# Altium footprint library Connector_PinHeader_1.00mm.PcbLib: 278 footprints (part 9 of 18)
Each footprint in its own frame and in the unit in brackets; x right, y up, seen from the top. Pads: shape width x height; smd on the part's side, far side on the other; paste and mask are expansions set on the pad; w line width, h text height; cw(c..) or ccw(c..) is an arc to the next point about the centre after c.
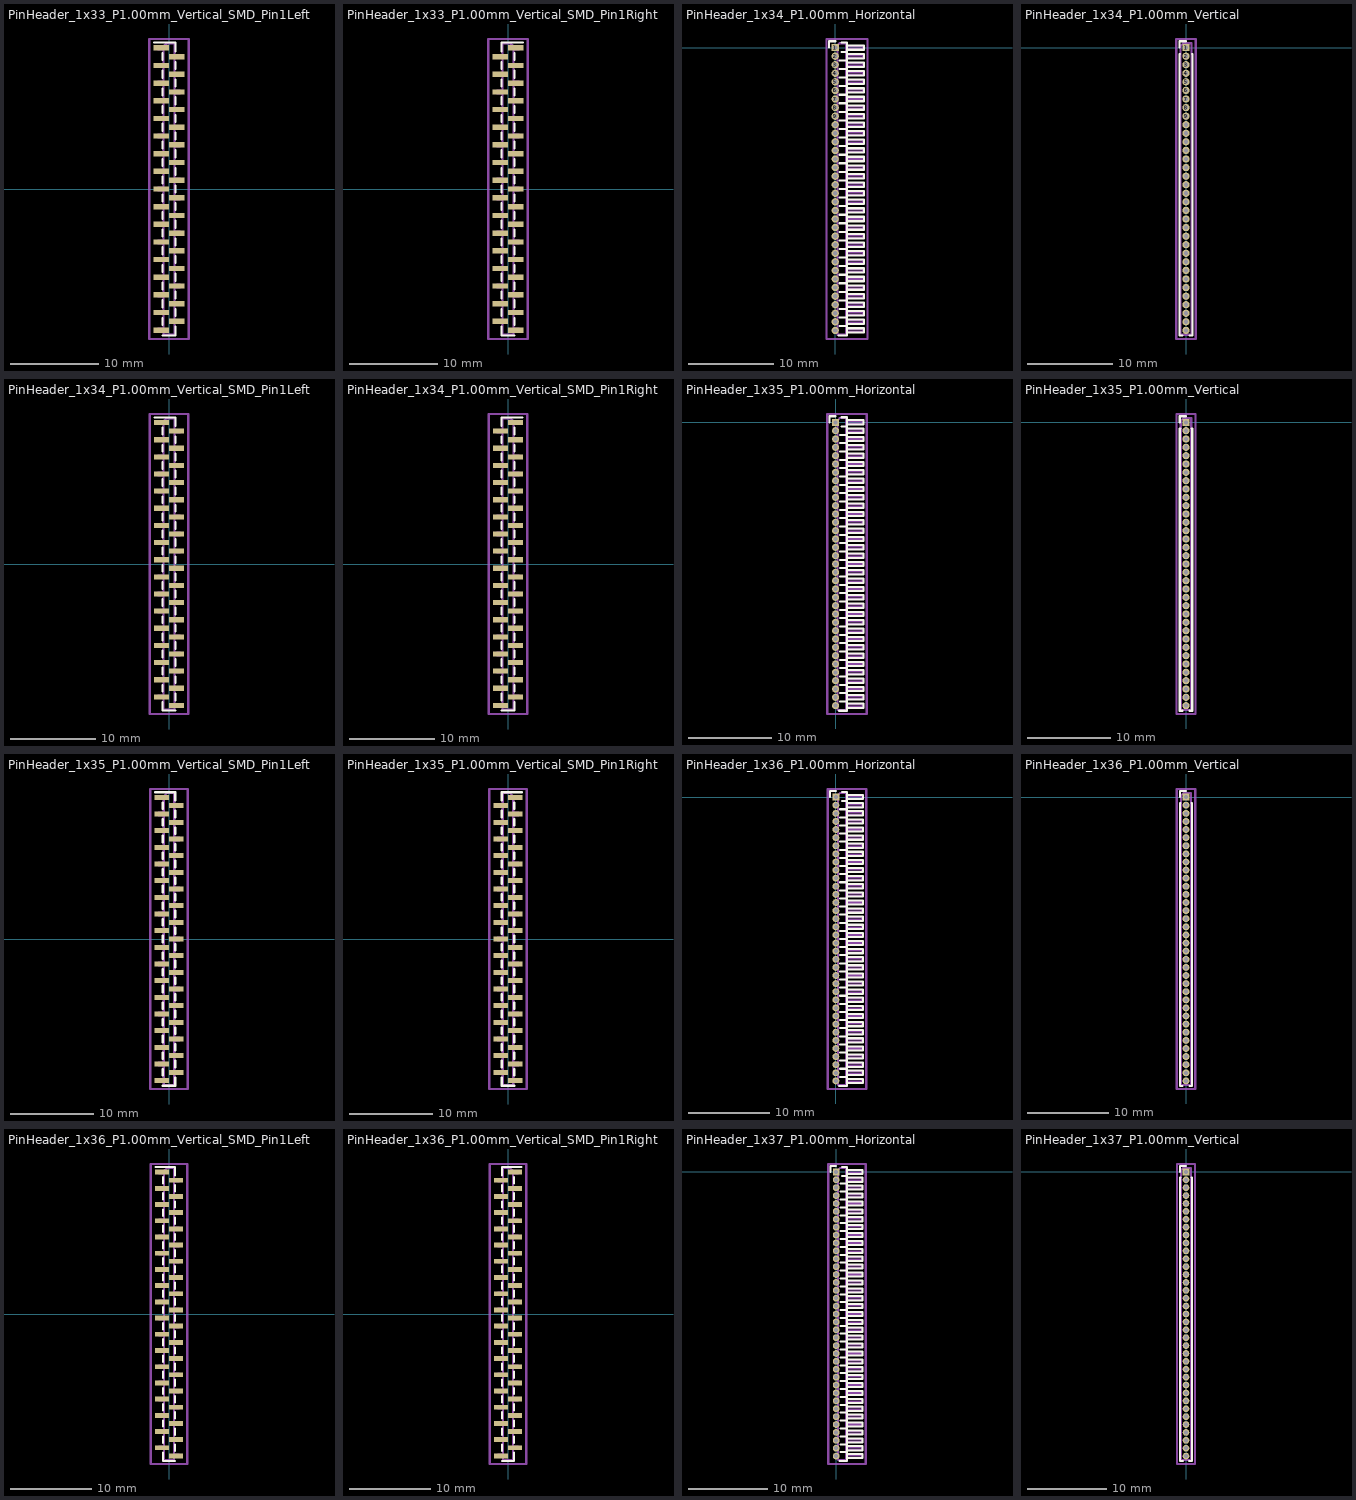
[diagram p8: the footprints below, top view; thin cyan lines are the x and y axes]

## PinHeader_1x33_P1.00mm_Vertical_SMD_Pin1Left [mm]
pads (33):
  rect 1.75x0.6 smd: 1(-0.875,16) 2(0.875,15) 3(-0.875,14) 4(0.875,13) 5(-0.875,12) 6(0.875,11) 7(-0.875,10) 8(0.875,9) 9(-0.875,8) 10(0.875,7) 11(-0.875,6) 12(0.875,5) 13(-0.875,4) 14(0.875,3) 15(-0.875,2) 16(0.875,1) 17(-0.875,0) 18(0.875,-1) 19(-0.875,-2) 20(0.875,-3) 21(-0.875,-4) 22(0.875,-5) 23(-0.875,-6) 24(0.875,-7) 25(-0.875,-8) 26(0.875,-9) 27(-0.875,-10) 28(0.875,-11) 29(-0.875,-12) 30(0.875,-13) 31(-0.875,-14) 32(0.875,-15) 33(-0.875,-16)
F.SilkS:
  lines w0.254: -1.69,16.61 -0.745,16.61 0.745,16.61 0.745,15.61 ; -0.745,-16.61 0.745,-16.61 0.745,-15.61 ; -0.745,-15.39 -0.745,-14.61 ; -0.745,-13.39 -0.745,-12.61 ; -0.745,-11.39 -0.745,-10.61 ; -0.745,-9.39 -0.745,-8.61 ; -0.745,-7.39 -0.745,-6.61 ; -0.745,-5.39 -0.745,-4.61 ; -0.745,-3.39 -0.745,-2.61 ; -0.745,-1.39 -0.745,-0.61 ; -0.745,0.61 -0.745,1.39 ; -0.745,2.61 -0.745,3.39 ; -0.745,4.61 -0.745,5.39 ; -0.745,6.61 -0.745,7.39 ; -0.745,8.61 -0.745,9.39 ; -0.745,10.61 -0.745,11.39 ; -0.745,12.61 -0.745,13.39 ; -0.745,14.61 -0.745,15.39 ; 0.745,-14.39 0.745,-13.61 ; 0.745,-12.39 0.745,-11.61 ; 0.745,-10.39 0.745,-9.61 ; 0.745,-8.39 0.745,-7.61 ; 0.745,-6.39 0.745,-5.61 ; 0.745,-4.39 0.745,-3.61 ; 0.745,-2.39 0.745,-1.61 ; 0.745,-0.39 0.745,0.39 ; 0.745,1.61 0.745,2.39 ; 0.745,3.61 0.745,4.39 ; 0.745,5.61 0.745,6.39 ; 0.745,7.61 0.745,8.39 ; 0.745,9.61 0.745,10.39 ; 0.745,11.61 0.745,12.39 ; 0.745,13.61 0.745,14.39
Top Assembly:
  lines w0.254: -0.635,-16.15 -1.25,-16.15 -1.25,-15.85 -0.635,-15.85 ; -0.635,-14.15 -1.25,-14.15 -1.25,-13.85 -0.635,-13.85 ; -0.635,-12.15 -1.25,-12.15 -1.25,-11.85 -0.635,-11.85 ; -0.635,-10.15 -1.25,-10.15 -1.25,-9.85 -0.635,-9.85 ; -0.635,-8.15 -1.25,-8.15 -1.25,-7.85 -0.635,-7.85 ; -0.635,-6.15 -1.25,-6.15 -1.25,-5.85 -0.635,-5.85 ; -0.635,-4.15 -1.25,-4.15 -1.25,-3.85 -0.635,-3.85 ; -0.635,-2.15 -1.25,-2.15 -1.25,-1.85 -0.635,-1.85 ; -0.635,-0.15 -1.25,-0.15 -1.25,0.15 -0.635,0.15 ; -0.635,1.85 -1.25,1.85 -1.25,2.15 -0.635,2.15 ; -0.635,3.85 -1.25,3.85 -1.25,4.15 -0.635,4.15 ; -0.635,5.85 -1.25,5.85 -1.25,6.15 -0.635,6.15 ; -0.635,7.85 -1.25,7.85 -1.25,8.15 -0.635,8.15 ; -0.635,9.85 -1.25,9.85 -1.25,10.15 -0.635,10.15 ; -0.635,11.85 -1.25,11.85 -1.25,12.15 -0.635,12.15 ; -0.635,13.85 -1.25,13.85 -1.25,14.15 -0.635,14.15 ; -0.635,15.85 -1.25,15.85 -1.25,16.15 -0.635,16.15 ; 0.635,-15.15 1.25,-15.15 1.25,-14.85 0.635,-14.85 ; 0.635,-13.15 1.25,-13.15 1.25,-12.85 0.635,-12.85 ; 0.635,-11.15 1.25,-11.15 1.25,-10.85 0.635,-10.85 ; 0.635,-9.15 1.25,-9.15 1.25,-8.85 0.635,-8.85 ; 0.635,-7.15 1.25,-7.15 1.25,-6.85 0.635,-6.85 ; 0.635,-5.15 1.25,-5.15 1.25,-4.85 0.635,-4.85 ; 0.635,-3.15 1.25,-3.15 1.25,-2.85 0.635,-2.85 ; 0.635,-1.15 1.25,-1.15 1.25,-0.85 0.635,-0.85 ; 0.635,0.85 1.25,0.85 1.25,1.15 0.635,1.15 ; 0.635,2.85 1.25,2.85 1.25,3.15 0.635,3.15 ; 0.635,4.85 1.25,4.85 1.25,5.15 0.635,5.15 ; 0.635,6.85 1.25,6.85 1.25,7.15 0.635,7.15 ; 0.635,8.85 1.25,8.85 1.25,9.15 0.635,9.15 ; 0.635,10.85 1.25,10.85 1.25,11.15 0.635,11.15 ; 0.635,12.85 1.25,12.85 1.25,13.15 0.635,13.15 ; 0.635,14.85 1.25,14.85 1.25,15.15 0.635,15.15 ; -0.635,16.15 -0.635,-16.5 0.635,-16.5 0.635,16.5 -0.285,16.5 -0.635,16.15
  text "'.Designator'" at 0.84,-4.047 h1
Top Courtyard:
  lines w0.254: -2.25,-17 2.25,-17 2.25,17 -2.25,17 -2.25,-17
Top Designator:
  text ".Designator" at -7.618,-0.508 h1.52

## PinHeader_1x33_P1.00mm_Vertical_SMD_Pin1Right [mm]
pads (33):
  rect 1.75x0.6 smd: 1(0.875,16) 2(-0.875,15) 3(0.875,14) 4(-0.875,13) 5(0.875,12) 6(-0.875,11) 7(0.875,10) 8(-0.875,9) 9(0.875,8) 10(-0.875,7) 11(0.875,6) 12(-0.875,5) 13(0.875,4) 14(-0.875,3) 15(0.875,2) 16(-0.875,1) 17(0.875,0) 18(-0.875,-1) 19(0.875,-2) 20(-0.875,-3) 21(0.875,-4) 22(-0.875,-5) 23(0.875,-6) 24(-0.875,-7) 25(0.875,-8) 26(-0.875,-9) 27(0.875,-10) 28(-0.875,-11) 29(0.875,-12) 30(-0.875,-13) 31(0.875,-14) 32(-0.875,-15) 33(0.875,-16)
F.SilkS:
  lines w0.254: -0.745,-15.61 -0.745,-16.61 0.745,-16.61 ; -0.745,-14.39 -0.745,-13.61 ; -0.745,-12.39 -0.745,-11.61 ; -0.745,-10.39 -0.745,-9.61 ; -0.745,-8.39 -0.745,-7.61 ; -0.745,-6.39 -0.745,-5.61 ; -0.745,-4.39 -0.745,-3.61 ; -0.745,-2.39 -0.745,-1.61 ; -0.745,-0.39 -0.745,0.39 ; -0.745,1.61 -0.745,2.39 ; -0.745,3.61 -0.745,4.39 ; -0.745,5.61 -0.745,6.39 ; -0.745,7.61 -0.745,8.39 ; -0.745,9.61 -0.745,10.39 ; -0.745,11.61 -0.745,12.39 ; -0.745,13.61 -0.745,14.39 ; -0.745,16.39 -0.745,15.61 -0.745,16.61 0.745,16.61 1.69,16.61 ; 0.745,-15.39 0.745,-14.61 ; 0.745,-13.39 0.745,-12.61 ; 0.745,-11.39 0.745,-10.61 ; 0.745,-9.39 0.745,-8.61 ; 0.745,-7.39 0.745,-6.61 ; 0.745,-5.39 0.745,-4.61 ; 0.745,-3.39 0.745,-2.61 ; 0.745,-1.39 0.745,-0.61 ; 0.745,0.61 0.745,1.39 ; 0.745,2.61 0.745,3.39 ; 0.745,4.61 0.745,5.39 ; 0.745,6.61 0.745,7.39 ; 0.745,8.61 0.745,9.39 ; 0.745,10.61 0.745,11.39 ; 0.745,12.61 0.745,13.39 ; 0.745,14.61 0.745,15.39
Top Assembly:
  lines w0.254: -0.635,-15.15 -1.25,-15.15 -1.25,-14.85 -0.635,-14.85 ; -0.635,-13.15 -1.25,-13.15 -1.25,-12.85 -0.635,-12.85 ; -0.635,-11.15 -1.25,-11.15 -1.25,-10.85 -0.635,-10.85 ; -0.635,-9.15 -1.25,-9.15 -1.25,-8.85 -0.635,-8.85 ; -0.635,-7.15 -1.25,-7.15 -1.25,-6.85 -0.635,-6.85 ; -0.635,-5.15 -1.25,-5.15 -1.25,-4.85 -0.635,-4.85 ; -0.635,-3.15 -1.25,-3.15 -1.25,-2.85 -0.635,-2.85 ; -0.635,-1.15 -1.25,-1.15 -1.25,-0.85 -0.635,-0.85 ; -0.635,0.85 -1.25,0.85 -1.25,1.15 -0.635,1.15 ; -0.635,2.85 -1.25,2.85 -1.25,3.15 -0.635,3.15 ; -0.635,4.85 -1.25,4.85 -1.25,5.15 -0.635,5.15 ; -0.635,6.85 -1.25,6.85 -1.25,7.15 -0.635,7.15 ; -0.635,8.85 -1.25,8.85 -1.25,9.15 -0.635,9.15 ; -0.635,10.85 -1.25,10.85 -1.25,11.15 -0.635,11.15 ; -0.635,12.85 -1.25,12.85 -1.25,13.15 -0.635,13.15 ; -0.635,14.85 -1.25,14.85 -1.25,15.15 -0.635,15.15 ; 0.635,-16.15 1.25,-16.15 1.25,-15.85 0.635,-15.85 ; 0.635,-14.15 1.25,-14.15 1.25,-13.85 0.635,-13.85 ; 0.635,-12.15 1.25,-12.15 1.25,-11.85 0.635,-11.85 ; 0.635,-10.15 1.25,-10.15 1.25,-9.85 0.635,-9.85 ; 0.635,-8.15 1.25,-8.15 1.25,-7.85 0.635,-7.85 ; 0.635,-6.15 1.25,-6.15 1.25,-5.85 0.635,-5.85 ; 0.635,-4.15 1.25,-4.15 1.25,-3.85 0.635,-3.85 ; 0.635,-2.15 1.25,-2.15 1.25,-1.85 0.635,-1.85 ; 0.635,-0.15 1.25,-0.15 1.25,0.15 0.635,0.15 ; 0.635,1.85 1.25,1.85 1.25,2.15 0.635,2.15 ; 0.635,3.85 1.25,3.85 1.25,4.15 0.635,4.15 ; 0.635,5.85 1.25,5.85 1.25,6.15 0.635,6.15 ; 0.635,7.85 1.25,7.85 1.25,8.15 0.635,8.15 ; 0.635,9.85 1.25,9.85 1.25,10.15 0.635,10.15 ; 0.635,11.85 1.25,11.85 1.25,12.15 0.635,12.15 ; 0.635,13.85 1.25,13.85 1.25,14.15 0.635,14.15 ; 0.635,15.85 1.25,15.85 1.25,16.15 0.635,16.15 ; 0.635,16.15 0.635,-16.5 -0.635,-16.5 -0.635,16.5 0.285,16.5 0.635,16.15
  text "'.Designator'" at 0.84,-4.047 h1
Top Courtyard:
  lines w0.254: -2.25,-17 2.25,-17 2.25,17 -2.25,17 -2.25,-17
Top Designator:
  text ".Designator" at -7.618,-0.508 h1.52

## PinHeader_1x34_P1.00mm_Horizontal [mm]
pads (34):
  rect 0.85x0.85 hole 0.5: 1(0,0)
  round 0.85 hole 0.5: 2(0,-1) 3(0,-2) 4(0,-3) 5(0,-4) 6(0,-5) 7(0,-6) 8(0,-7) 9(0,-8) 10(0,-9) 11(0,-10) 12(0,-11) 13(0,-12) 14(0,-13) 15(0,-14) 16(0,-15) 17(0,-16) 18(0,-17) 19(0,-18) 20(0,-19) 21(0,-20) 22(0,-21) 23(0,-22) 24(0,-23) 25(0,-24) 26(0,-25) 27(0,-26) 28(0,-27) 29(0,-28) 30(0,-29) 31(0,-30) 32(0,-31) 33(0,-32) 34(0,-33)
F.SilkS:
  lines w0.254: -0.735,0 -0.735,0.735 0,0.735 ; 0.41,-33.61 1.36,-33.61 1.36,0.61 0.735,0.61 ; 0.539,-32.5 1.36,-32.5 ; 0.539,-31.5 1.36,-31.5 ; 0.539,-30.5 1.36,-30.5 ; 0.539,-29.5 1.36,-29.5 ; 0.539,-28.5 1.36,-28.5 ; 0.539,-27.5 1.36,-27.5 ; 0.539,-26.5 1.36,-26.5 ; 0.539,-25.5 1.36,-25.5 ; 0.539,-24.5 1.36,-24.5 ; 0.539,-23.5 1.36,-23.5 ; 0.539,-22.5 1.36,-22.5 ; 0.539,-21.5 1.36,-21.5 ; 0.539,-20.5 1.36,-20.5 ; 0.539,-19.5 1.36,-19.5 ; 0.539,-18.5 1.36,-18.5 ; 0.539,-17.5 1.36,-17.5 ; 0.539,-16.5 1.36,-16.5 ; 0.539,-15.5 1.36,-15.5 ; 0.539,-14.5 1.36,-14.5 ; 0.539,-13.5 1.36,-13.5 ; 0.539,-12.5 1.36,-12.5 ; 0.539,-11.5 1.36,-11.5 ; 0.539,-10.5 1.36,-10.5 ; 0.539,-9.5 1.36,-9.5 ; 0.539,-8.5 1.36,-8.5 ; 0.539,-7.5 1.36,-7.5 ; 0.539,-6.5 1.36,-6.5 ; 0.539,-5.5 1.36,-5.5 ; 0.539,-4.5 1.36,-4.5 ; 0.539,-3.5 1.36,-3.5 ; 0.539,-2.5 1.36,-2.5 ; 0.539,-1.5 1.36,-1.5 ; 0.735,-0.5 1.36,-0.5 ; 1.36,-33.26 3.36,-33.26 3.36,-32.74 1.36,-32.74 ; 1.36,-32.26 3.36,-32.26 3.36,-31.74 1.36,-31.74 ; 1.36,-31.26 3.36,-31.26 3.36,-30.74 1.36,-30.74 ; 1.36,-30.26 3.36,-30.26 3.36,-29.74 1.36,-29.74 ; 1.36,-29.26 3.36,-29.26 3.36,-28.74 1.36,-28.74 ; 1.36,-28.26 3.36,-28.26 3.36,-27.74 1.36,-27.74 ; 1.36,-27.26 3.36,-27.26 3.36,-26.74 1.36,-26.74 ; 1.36,-26.26 3.36,-26.26 3.36,-25.74 1.36,-25.74 ; 1.36,-25.26 3.36,-25.26 3.36,-24.74 1.36,-24.74 ; 1.36,-24.26 3.36,-24.26 3.36,-23.74 1.36,-23.74 ; 1.36,-23.26 3.36,-23.26 3.36,-22.74 1.36,-22.74 ; 1.36,-22.26 3.36,-22.26 3.36,-21.74 1.36,-21.74 ; 1.36,-21.26 3.36,-21.26 3.36,-20.74 1.36,-20.74 ; 1.36,-20.26 3.36,-20.26 3.36,-19.74 1.36,-19.74 ; 1.36,-19.26 3.36,-19.26 3.36,-18.74 1.36,-18.74 ; 1.36,-18.26 3.36,-18.26 3.36,-17.74 1.36,-17.74 ; 1.36,-17.26 3.36,-17.26 3.36,-16.74 1.36,-16.74 ; 1.36,-16.26 3.36,-16.26 3.36,-15.74 1.36,-15.74 ; 1.36,-15.26 3.36,-15.26 3.36,-14.74 1.36,-14.74 ; 1.36,-14.26 3.36,-14.26 3.36,-13.74 1.36,-13.74 ; 1.36,-13.26 3.36,-13.26 3.36,-12.74 1.36,-12.74 ; 1.36,-12.26 3.36,-12.26 3.36,-11.74 1.36,-11.74 ; 1.36,-11.26 3.36,-11.26 3.36,-10.74 1.36,-10.74 ; 1.36,-10.26 3.36,-10.26 3.36,-9.74 1.36,-9.74 ; 1.36,-9.26 3.36,-9.26 3.36,-8.74 1.36,-8.74 ; 1.36,-8.26 3.36,-8.26 3.36,-7.74 1.36,-7.74 ; 1.36,-7.26 3.36,-7.26 3.36,-6.74 1.36,-6.74 ; 1.36,-6.26 3.36,-6.26 3.36,-5.74 1.36,-5.74 ; 1.36,-5.26 3.36,-5.26 3.36,-4.74 1.36,-4.74 ; 1.36,-4.26 3.36,-4.26 3.36,-3.74 1.36,-3.74 ; 1.36,-3.26 3.36,-3.26 3.36,-2.74 1.36,-2.74 ; 1.36,-2.26 3.36,-2.26 3.36,-1.74 1.36,-1.74 ; 1.36,-1.26 3.36,-1.26 3.36,-0.74 1.36,-0.74 ; 1.36,-0.26 3.36,-0.26 3.36,0.26 1.36,0.26 1.36,-0.26
Top Assembly:
  drawing of 209 lines, arcs and shapes, not listed
  text "'.Designator'" at 1.254,-18.928 h0.6
Top Courtyard:
  lines w0.254: -1,-34 3.75,-34 3.75,1 -1,1 -1,-34
Top Designator:
  text ".Designator" at -6.243,-17.008 h1.52

## PinHeader_1x34_P1.00mm_Vertical [mm]
pads (34):
  rect 0.85x0.85 hole 0.5: 1(0,0)
  round 0.85 hole 0.5: 2(0,-1) 3(0,-2) 4(0,-3) 5(0,-4) 6(0,-5) 7(0,-6) 8(0,-7) 9(0,-8) 10(0,-9) 11(0,-10) 12(0,-11) 13(0,-12) 14(0,-13) 15(0,-14) 16(0,-15) 17(0,-16) 18(0,-17) 19(0,-18) 20(0,-19) 21(0,-20) 22(0,-21) 23(0,-22) 24(0,-23) 25(0,-24) 26(0,-25) 27(0,-26) 28(0,-27) 29(0,-28) 30(0,-29) 31(0,-30) 32(0,-31) 33(0,-32) 34(0,-33)
F.SilkS:
  lines w0.254: -0.745,0 -0.745,0.735 0,0.735 ; -0.686,-0.735 -0.745,-0.735 -0.745,-33.61 -0.41,-33.61 ; 0.41,-33.61 0.745,-33.61 0.745,-0.735 0.686,-0.735
Top Assembly:
  lines w0.254: -0.635,-33.5 0.635,-33.5 0.635,0.5 -0.318,0.5 -0.635,0.182 -0.635,-33.5
  text "'.Designator'" at 0.639,-19.576 h0.76
Top Courtyard:
  lines w0.254: -1.14,-34 1.14,-34 1.14,1 -1.14,1 -1.14,-34
Top Designator:
  text ".Designator" at -7.618,-17.008 h1.52

## PinHeader_1x34_P1.00mm_Vertical_SMD_Pin1Left [mm]
pads (34):
  rect 1.75x0.6 smd: 1(-0.875,16.5) 2(0.875,15.5) 3(-0.875,14.5) 4(0.875,13.5) 5(-0.875,12.5) 6(0.875,11.5) 7(-0.875,10.5) 8(0.875,9.5) 9(-0.875,8.5) 10(0.875,7.5) 11(-0.875,6.5) 12(0.875,5.5) 13(-0.875,4.5) 14(0.875,3.5) 15(-0.875,2.5) 16(0.875,1.5) 17(-0.875,0.5) 18(0.875,-0.5) 19(-0.875,-1.5) 20(0.875,-2.5) 21(-0.875,-3.5) 22(0.875,-4.5) 23(-0.875,-5.5) 24(0.875,-6.5) 25(-0.875,-7.5) 26(0.875,-8.5) 27(-0.875,-9.5) 28(0.875,-10.5) 29(-0.875,-11.5) 30(0.875,-12.5) 31(-0.875,-13.5) 32(0.875,-14.5) 33(-0.875,-15.5) 34(0.875,-16.5)
F.SilkS:
  lines w0.254: -1.69,17.11 -0.745,17.11 0.745,17.11 0.745,16.11 ; -0.745,-16.11 -0.745,-17.11 0.745,-17.11 ; -0.745,-14.89 -0.745,-14.11 ; -0.745,-12.89 -0.745,-12.11 ; -0.745,-10.89 -0.745,-10.11 ; -0.745,-8.89 -0.745,-8.11 ; -0.745,-6.89 -0.745,-6.11 ; -0.745,-4.89 -0.745,-4.11 ; -0.745,-2.89 -0.745,-2.11 ; -0.745,-0.89 -0.745,-0.11 ; -0.745,1.11 -0.745,1.89 ; -0.745,3.11 -0.745,3.89 ; -0.745,5.11 -0.745,5.89 ; -0.745,7.11 -0.745,7.89 ; -0.745,9.11 -0.745,9.89 ; -0.745,11.11 -0.745,11.89 ; -0.745,13.11 -0.745,13.89 ; -0.745,15.11 -0.745,15.89 ; 0.745,-15.89 0.745,-15.11 ; 0.745,-13.89 0.745,-13.11 ; 0.745,-11.89 0.745,-11.11 ; 0.745,-9.89 0.745,-9.11 ; 0.745,-7.89 0.745,-7.11 ; 0.745,-5.89 0.745,-5.11 ; 0.745,-3.89 0.745,-3.11 ; 0.745,-1.89 0.745,-1.11 ; 0.745,0.11 0.745,0.89 ; 0.745,2.11 0.745,2.89 ; 0.745,4.11 0.745,4.89 ; 0.745,6.11 0.745,6.89 ; 0.745,8.11 0.745,8.89 ; 0.745,10.11 0.745,10.89 ; 0.745,12.11 0.745,12.89 ; 0.745,14.11 0.745,14.89
Top Assembly:
  lines w0.254: -0.635,-15.65 -1.25,-15.65 -1.25,-15.35 -0.635,-15.35 ; -0.635,-13.65 -1.25,-13.65 -1.25,-13.35 -0.635,-13.35 ; -0.635,-11.65 -1.25,-11.65 -1.25,-11.35 -0.635,-11.35 ; -0.635,-9.65 -1.25,-9.65 -1.25,-9.35 -0.635,-9.35 ; -0.635,-7.65 -1.25,-7.65 -1.25,-7.35 -0.635,-7.35 ; -0.635,-5.65 -1.25,-5.65 -1.25,-5.35 -0.635,-5.35 ; -0.635,-3.65 -1.25,-3.65 -1.25,-3.35 -0.635,-3.35 ; -0.635,-1.65 -1.25,-1.65 -1.25,-1.35 -0.635,-1.35 ; -0.635,0.35 -1.25,0.35 -1.25,0.65 -0.635,0.65 ; -0.635,2.35 -1.25,2.35 -1.25,2.65 -0.635,2.65 ; -0.635,4.35 -1.25,4.35 -1.25,4.65 -0.635,4.65 ; -0.635,6.35 -1.25,6.35 -1.25,6.65 -0.635,6.65 ; -0.635,8.35 -1.25,8.35 -1.25,8.65 -0.635,8.65 ; -0.635,10.35 -1.25,10.35 -1.25,10.65 -0.635,10.65 ; -0.635,12.35 -1.25,12.35 -1.25,12.65 -0.635,12.65 ; -0.635,14.35 -1.25,14.35 -1.25,14.65 -0.635,14.65 ; -0.635,16.35 -1.25,16.35 -1.25,16.65 -0.635,16.65 ; 0.635,-16.65 1.25,-16.65 1.25,-16.35 0.635,-16.35 ; 0.635,-14.65 1.25,-14.65 1.25,-14.35 0.635,-14.35 ; 0.635,-12.65 1.25,-12.65 1.25,-12.35 0.635,-12.35 ; 0.635,-10.65 1.25,-10.65 1.25,-10.35 0.635,-10.35 ; 0.635,-8.65 1.25,-8.65 1.25,-8.35 0.635,-8.35 ; 0.635,-6.65 1.25,-6.65 1.25,-6.35 0.635,-6.35 ; 0.635,-4.65 1.25,-4.65 1.25,-4.35 0.635,-4.35 ; 0.635,-2.65 1.25,-2.65 1.25,-2.35 0.635,-2.35 ; 0.635,-0.65 1.25,-0.65 1.25,-0.35 0.635,-0.35 ; 0.635,1.35 1.25,1.35 1.25,1.65 0.635,1.65 ; 0.635,3.35 1.25,3.35 1.25,3.65 0.635,3.65 ; 0.635,5.35 1.25,5.35 1.25,5.65 0.635,5.65 ; 0.635,7.35 1.25,7.35 1.25,7.65 0.635,7.65 ; 0.635,9.35 1.25,9.35 1.25,9.65 0.635,9.65 ; 0.635,11.35 1.25,11.35 1.25,11.65 0.635,11.65 ; 0.635,13.35 1.25,13.35 1.25,13.65 0.635,13.65 ; 0.635,15.35 1.25,15.35 1.25,15.65 0.635,15.65 ; -0.635,16.65 -0.635,-17 0.635,-17 0.635,17 -0.285,17 -0.635,16.65
  text "'.Designator'" at 0.84,-4.047 h1
Top Courtyard:
  lines w0.254: -2.25,-17.5 2.25,-17.5 2.25,17.5 -2.25,17.5 -2.25,-17.5
Top Designator:
  text ".Designator" at -7.618,-0.508 h1.52

## PinHeader_1x34_P1.00mm_Vertical_SMD_Pin1Right [mm]
pads (34):
  rect 1.75x0.6 smd: 1(0.875,16.5) 2(-0.875,15.5) 3(0.875,14.5) 4(-0.875,13.5) 5(0.875,12.5) 6(-0.875,11.5) 7(0.875,10.5) 8(-0.875,9.5) 9(0.875,8.5) 10(-0.875,7.5) 11(0.875,6.5) 12(-0.875,5.5) 13(0.875,4.5) 14(-0.875,3.5) 15(0.875,2.5) 16(-0.875,1.5) 17(0.875,0.5) 18(-0.875,-0.5) 19(0.875,-1.5) 20(-0.875,-2.5) 21(0.875,-3.5) 22(-0.875,-4.5) 23(0.875,-5.5) 24(-0.875,-6.5) 25(0.875,-7.5) 26(-0.875,-8.5) 27(0.875,-9.5) 28(-0.875,-10.5) 29(0.875,-11.5) 30(-0.875,-12.5) 31(0.875,-13.5) 32(-0.875,-14.5) 33(0.875,-15.5) 34(-0.875,-16.5)
F.SilkS:
  lines w0.254: -0.745,-17.11 0.745,-17.11 0.745,-16.11 ; -0.745,-15.89 -0.745,-15.11 ; -0.745,-13.89 -0.745,-13.11 ; -0.745,-11.89 -0.745,-11.11 ; -0.745,-9.89 -0.745,-9.11 ; -0.745,-7.89 -0.745,-7.11 ; -0.745,-5.89 -0.745,-5.11 ; -0.745,-3.89 -0.745,-3.11 ; -0.745,-1.89 -0.745,-1.11 ; -0.745,0.11 -0.745,0.89 ; -0.745,2.11 -0.745,2.89 ; -0.745,4.11 -0.745,4.89 ; -0.745,6.11 -0.745,6.89 ; -0.745,8.11 -0.745,8.89 ; -0.745,10.11 -0.745,10.89 ; -0.745,12.11 -0.745,12.89 ; -0.745,14.11 -0.745,14.89 ; -0.745,16.89 -0.745,16.11 -0.745,17.11 0.745,17.11 1.69,17.11 ; 0.745,-14.89 0.745,-14.11 ; 0.745,-12.89 0.745,-12.11 ; 0.745,-10.89 0.745,-10.11 ; 0.745,-8.89 0.745,-8.11 ; 0.745,-6.89 0.745,-6.11 ; 0.745,-4.89 0.745,-4.11 ; 0.745,-2.89 0.745,-2.11 ; 0.745,-0.89 0.745,-0.11 ; 0.745,1.11 0.745,1.89 ; 0.745,3.11 0.745,3.89 ; 0.745,5.11 0.745,5.89 ; 0.745,7.11 0.745,7.89 ; 0.745,9.11 0.745,9.89 ; 0.745,11.11 0.745,11.89 ; 0.745,13.11 0.745,13.89 ; 0.745,15.11 0.745,15.89
Top Assembly:
  lines w0.254: -0.635,-16.65 -1.25,-16.65 -1.25,-16.35 -0.635,-16.35 ; -0.635,-14.65 -1.25,-14.65 -1.25,-14.35 -0.635,-14.35 ; -0.635,-12.65 -1.25,-12.65 -1.25,-12.35 -0.635,-12.35 ; -0.635,-10.65 -1.25,-10.65 -1.25,-10.35 -0.635,-10.35 ; -0.635,-8.65 -1.25,-8.65 -1.25,-8.35 -0.635,-8.35 ; -0.635,-6.65 -1.25,-6.65 -1.25,-6.35 -0.635,-6.35 ; -0.635,-4.65 -1.25,-4.65 -1.25,-4.35 -0.635,-4.35 ; -0.635,-2.65 -1.25,-2.65 -1.25,-2.35 -0.635,-2.35 ; -0.635,-0.65 -1.25,-0.65 -1.25,-0.35 -0.635,-0.35 ; -0.635,1.35 -1.25,1.35 -1.25,1.65 -0.635,1.65 ; -0.635,3.35 -1.25,3.35 -1.25,3.65 -0.635,3.65 ; -0.635,5.35 -1.25,5.35 -1.25,5.65 -0.635,5.65 ; -0.635,7.35 -1.25,7.35 -1.25,7.65 -0.635,7.65 ; -0.635,9.35 -1.25,9.35 -1.25,9.65 -0.635,9.65 ; -0.635,11.35 -1.25,11.35 -1.25,11.65 -0.635,11.65 ; -0.635,13.35 -1.25,13.35 -1.25,13.65 -0.635,13.65 ; -0.635,15.35 -1.25,15.35 -1.25,15.65 -0.635,15.65 ; 0.635,-15.65 1.25,-15.65 1.25,-15.35 0.635,-15.35 ; 0.635,-13.65 1.25,-13.65 1.25,-13.35 0.635,-13.35 ; 0.635,-11.65 1.25,-11.65 1.25,-11.35 0.635,-11.35 ; 0.635,-9.65 1.25,-9.65 1.25,-9.35 0.635,-9.35 ; 0.635,-7.65 1.25,-7.65 1.25,-7.35 0.635,-7.35 ; 0.635,-5.65 1.25,-5.65 1.25,-5.35 0.635,-5.35 ; 0.635,-3.65 1.25,-3.65 1.25,-3.35 0.635,-3.35 ; 0.635,-1.65 1.25,-1.65 1.25,-1.35 0.635,-1.35 ; 0.635,0.35 1.25,0.35 1.25,0.65 0.635,0.65 ; 0.635,2.35 1.25,2.35 1.25,2.65 0.635,2.65 ; 0.635,4.35 1.25,4.35 1.25,4.65 0.635,4.65 ; 0.635,6.35 1.25,6.35 1.25,6.65 0.635,6.65 ; 0.635,8.35 1.25,8.35 1.25,8.65 0.635,8.65 ; 0.635,10.35 1.25,10.35 1.25,10.65 0.635,10.65 ; 0.635,12.35 1.25,12.35 1.25,12.65 0.635,12.65 ; 0.635,14.35 1.25,14.35 1.25,14.65 0.635,14.65 ; 0.635,16.35 1.25,16.35 1.25,16.65 0.635,16.65 ; 0.635,16.65 0.635,-17 -0.635,-17 -0.635,17 0.285,17 0.635,16.65
  text "'.Designator'" at 0.84,-4.047 h1
Top Courtyard:
  lines w0.254: -2.25,-17.5 2.25,-17.5 2.25,17.5 -2.25,17.5 -2.25,-17.5
Top Designator:
  text ".Designator" at -7.618,-0.508 h1.52

## PinHeader_1x35_P1.00mm_Horizontal [mm]
pads (35):
  rect 0.85x0.85 hole 0.5: 1(0,0)
  round 0.85 hole 0.5: 2(0,-1) 3(0,-2) 4(0,-3) 5(0,-4) 6(0,-5) 7(0,-6) 8(0,-7) 9(0,-8) 10(0,-9) 11(0,-10) 12(0,-11) 13(0,-12) 14(0,-13) 15(0,-14) 16(0,-15) 17(0,-16) 18(0,-17) 19(0,-18) 20(0,-19) 21(0,-20) 22(0,-21) 23(0,-22) 24(0,-23) 25(0,-24) 26(0,-25) 27(0,-26) 28(0,-27) 29(0,-28) 30(0,-29) 31(0,-30) 32(0,-31) 33(0,-32) 34(0,-33) 35(0,-34)
F.SilkS:
  lines w0.254: -0.735,0 -0.735,0.735 0,0.735 ; 0.41,-34.61 1.36,-34.61 1.36,0.61 0.735,0.61 ; 0.539,-33.5 1.36,-33.5 ; 0.539,-32.5 1.36,-32.5 ; 0.539,-31.5 1.36,-31.5 ; 0.539,-30.5 1.36,-30.5 ; 0.539,-29.5 1.36,-29.5 ; 0.539,-28.5 1.36,-28.5 ; 0.539,-27.5 1.36,-27.5 ; 0.539,-26.5 1.36,-26.5 ; 0.539,-25.5 1.36,-25.5 ; 0.539,-24.5 1.36,-24.5 ; 0.539,-23.5 1.36,-23.5 ; 0.539,-22.5 1.36,-22.5 ; 0.539,-21.5 1.36,-21.5 ; 0.539,-20.5 1.36,-20.5 ; 0.539,-19.5 1.36,-19.5 ; 0.539,-18.5 1.36,-18.5 ; 0.539,-17.5 1.36,-17.5 ; 0.539,-16.5 1.36,-16.5 ; 0.539,-15.5 1.36,-15.5 ; 0.539,-14.5 1.36,-14.5 ; 0.539,-13.5 1.36,-13.5 ; 0.539,-12.5 1.36,-12.5 ; 0.539,-11.5 1.36,-11.5 ; 0.539,-10.5 1.36,-10.5 ; 0.539,-9.5 1.36,-9.5 ; 0.539,-8.5 1.36,-8.5 ; 0.539,-7.5 1.36,-7.5 ; 0.539,-6.5 1.36,-6.5 ; 0.539,-5.5 1.36,-5.5 ; 0.539,-4.5 1.36,-4.5 ; 0.539,-3.5 1.36,-3.5 ; 0.539,-2.5 1.36,-2.5 ; 0.539,-1.5 1.36,-1.5 ; 0.735,-0.5 1.36,-0.5 ; 1.36,-34.26 3.36,-34.26 3.36,-33.74 1.36,-33.74 ; 1.36,-33.26 3.36,-33.26 3.36,-32.74 1.36,-32.74 ; 1.36,-32.26 3.36,-32.26 3.36,-31.74 1.36,-31.74 ; 1.36,-31.26 3.36,-31.26 3.36,-30.74 1.36,-30.74 ; 1.36,-30.26 3.36,-30.26 3.36,-29.74 1.36,-29.74 ; 1.36,-29.26 3.36,-29.26 3.36,-28.74 1.36,-28.74 ; 1.36,-28.26 3.36,-28.26 3.36,-27.74 1.36,-27.74 ; 1.36,-27.26 3.36,-27.26 3.36,-26.74 1.36,-26.74 ; 1.36,-26.26 3.36,-26.26 3.36,-25.74 1.36,-25.74 ; 1.36,-25.26 3.36,-25.26 3.36,-24.74 1.36,-24.74 ; 1.36,-24.26 3.36,-24.26 3.36,-23.74 1.36,-23.74 ; 1.36,-23.26 3.36,-23.26 3.36,-22.74 1.36,-22.74 ; 1.36,-22.26 3.36,-22.26 3.36,-21.74 1.36,-21.74 ; 1.36,-21.26 3.36,-21.26 3.36,-20.74 1.36,-20.74 ; 1.36,-20.26 3.36,-20.26 3.36,-19.74 1.36,-19.74 ; 1.36,-19.26 3.36,-19.26 3.36,-18.74 1.36,-18.74 ; 1.36,-18.26 3.36,-18.26 3.36,-17.74 1.36,-17.74 ; 1.36,-17.26 3.36,-17.26 3.36,-16.74 1.36,-16.74 ; 1.36,-16.26 3.36,-16.26 3.36,-15.74 1.36,-15.74 ; 1.36,-15.26 3.36,-15.26 3.36,-14.74 1.36,-14.74 ; 1.36,-14.26 3.36,-14.26 3.36,-13.74 1.36,-13.74 ; 1.36,-13.26 3.36,-13.26 3.36,-12.74 1.36,-12.74 ; 1.36,-12.26 3.36,-12.26 3.36,-11.74 1.36,-11.74 ; 1.36,-11.26 3.36,-11.26 3.36,-10.74 1.36,-10.74 ; 1.36,-10.26 3.36,-10.26 3.36,-9.74 1.36,-9.74 ; 1.36,-9.26 3.36,-9.26 3.36,-8.74 1.36,-8.74 ; 1.36,-8.26 3.36,-8.26 3.36,-7.74 1.36,-7.74 ; 1.36,-7.26 3.36,-7.26 3.36,-6.74 1.36,-6.74 ; 1.36,-6.26 3.36,-6.26 3.36,-5.74 1.36,-5.74 ; 1.36,-5.26 3.36,-5.26 3.36,-4.74 1.36,-4.74 ; 1.36,-4.26 3.36,-4.26 3.36,-3.74 1.36,-3.74 ; 1.36,-3.26 3.36,-3.26 3.36,-2.74 1.36,-2.74 ; 1.36,-2.26 3.36,-2.26 3.36,-1.74 1.36,-1.74 ; 1.36,-1.26 3.36,-1.26 3.36,-0.74 1.36,-0.74 ; 1.36,-0.26 3.36,-0.26 3.36,0.26 1.36,0.26 1.36,-0.26
Top Assembly:
  drawing of 215 lines, arcs and shapes, not listed
  text "'.Designator'" at 1.254,-19.428 h0.6
Top Courtyard:
  lines w0.254: -1,-35 3.75,-35 3.75,1 -1,1 -1,-35
Top Designator:
  text ".Designator" at -6.243,-17.508 h1.52

## PinHeader_1x35_P1.00mm_Vertical [mm]
pads (35):
  rect 0.85x0.85 hole 0.5: 1(0,0)
  round 0.85 hole 0.5: 2(0,-1) 3(0,-2) 4(0,-3) 5(0,-4) 6(0,-5) 7(0,-6) 8(0,-7) 9(0,-8) 10(0,-9) 11(0,-10) 12(0,-11) 13(0,-12) 14(0,-13) 15(0,-14) 16(0,-15) 17(0,-16) 18(0,-17) 19(0,-18) 20(0,-19) 21(0,-20) 22(0,-21) 23(0,-22) 24(0,-23) 25(0,-24) 26(0,-25) 27(0,-26) 28(0,-27) 29(0,-28) 30(0,-29) 31(0,-30) 32(0,-31) 33(0,-32) 34(0,-33) 35(0,-34)
F.SilkS:
  lines w0.254: -0.745,0 -0.745,0.735 0,0.735 ; -0.686,-0.735 -0.745,-0.735 -0.745,-34.61 -0.41,-34.61 ; 0.41,-34.61 0.745,-34.61 0.745,-0.735 0.686,-0.735
Top Assembly:
  lines w0.254: -0.635,-34.5 0.635,-34.5 0.635,0.5 -0.318,0.5 -0.635,0.182 -0.635,-34.5
  text "'.Designator'" at 0.639,-20.076 h0.76
Top Courtyard:
  lines w0.254: -1.14,-35 1.14,-35 1.14,1 -1.14,1 -1.14,-35
Top Designator:
  text ".Designator" at -7.618,-17.508 h1.52

## PinHeader_1x35_P1.00mm_Vertical_SMD_Pin1Left [mm]
pads (35):
  rect 1.75x0.6 smd: 1(-0.875,17) 2(0.875,16) 3(-0.875,15) 4(0.875,14) 5(-0.875,13) 6(0.875,12) 7(-0.875,11) 8(0.875,10) 9(-0.875,9) 10(0.875,8) 11(-0.875,7) 12(0.875,6) 13(-0.875,5) 14(0.875,4) 15(-0.875,3) 16(0.875,2) 17(-0.875,1) 18(0.875,0) 19(-0.875,-1) 20(0.875,-2) 21(-0.875,-3) 22(0.875,-4) 23(-0.875,-5) 24(0.875,-6) 25(-0.875,-7) 26(0.875,-8) 27(-0.875,-9) 28(0.875,-10) 29(-0.875,-11) 30(0.875,-12) 31(-0.875,-13) 32(0.875,-14) 33(-0.875,-15) 34(0.875,-16) 35(-0.875,-17)
F.SilkS:
  lines w0.254: -1.69,17.61 -0.745,17.61 0.745,17.61 0.745,16.61 ; -0.745,-17.61 0.745,-17.61 0.745,-16.61 ; -0.745,-16.39 -0.745,-15.61 ; -0.745,-14.39 -0.745,-13.61 ; -0.745,-12.39 -0.745,-11.61 ; -0.745,-10.39 -0.745,-9.61 ; -0.745,-8.39 -0.745,-7.61 ; -0.745,-6.39 -0.745,-5.61 ; -0.745,-4.39 -0.745,-3.61 ; -0.745,-2.39 -0.745,-1.61 ; -0.745,-0.39 -0.745,0.39 ; -0.745,1.61 -0.745,2.39 ; -0.745,3.61 -0.745,4.39 ; -0.745,5.61 -0.745,6.39 ; -0.745,7.61 -0.745,8.39 ; -0.745,9.61 -0.745,10.39 ; -0.745,11.61 -0.745,12.39 ; -0.745,13.61 -0.745,14.39 ; -0.745,15.61 -0.745,16.39 ; 0.745,-15.39 0.745,-14.61 ; 0.745,-13.39 0.745,-12.61 ; 0.745,-11.39 0.745,-10.61 ; 0.745,-9.39 0.745,-8.61 ; 0.745,-7.39 0.745,-6.61 ; 0.745,-5.39 0.745,-4.61 ; 0.745,-3.39 0.745,-2.61 ; 0.745,-1.39 0.745,-0.61 ; 0.745,0.61 0.745,1.39 ; 0.745,2.61 0.745,3.39 ; 0.745,4.61 0.745,5.39 ; 0.745,6.61 0.745,7.39 ; 0.745,8.61 0.745,9.39 ; 0.745,10.61 0.745,11.39 ; 0.745,12.61 0.745,13.39 ; 0.745,14.61 0.745,15.39
Top Assembly:
  lines w0.254: -0.635,-17.15 -1.25,-17.15 -1.25,-16.85 -0.635,-16.85 ; -0.635,-15.15 -1.25,-15.15 -1.25,-14.85 -0.635,-14.85 ; -0.635,-13.15 -1.25,-13.15 -1.25,-12.85 -0.635,-12.85 ; -0.635,-11.15 -1.25,-11.15 -1.25,-10.85 -0.635,-10.85 ; -0.635,-9.15 -1.25,-9.15 -1.25,-8.85 -0.635,-8.85 ; -0.635,-7.15 -1.25,-7.15 -1.25,-6.85 -0.635,-6.85 ; -0.635,-5.15 -1.25,-5.15 -1.25,-4.85 -0.635,-4.85 ; -0.635,-3.15 -1.25,-3.15 -1.25,-2.85 -0.635,-2.85 ; -0.635,-1.15 -1.25,-1.15 -1.25,-0.85 -0.635,-0.85 ; -0.635,0.85 -1.25,0.85 -1.25,1.15 -0.635,1.15 ; -0.635,2.85 -1.25,2.85 -1.25,3.15 -0.635,3.15 ; -0.635,4.85 -1.25,4.85 -1.25,5.15 -0.635,5.15 ; -0.635,6.85 -1.25,6.85 -1.25,7.15 -0.635,7.15 ; -0.635,8.85 -1.25,8.85 -1.25,9.15 -0.635,9.15 ; -0.635,10.85 -1.25,10.85 -1.25,11.15 -0.635,11.15 ; -0.635,12.85 -1.25,12.85 -1.25,13.15 -0.635,13.15 ; -0.635,14.85 -1.25,14.85 -1.25,15.15 -0.635,15.15 ; -0.635,16.85 -1.25,16.85 -1.25,17.15 -0.635,17.15 ; 0.635,-16.15 1.25,-16.15 1.25,-15.85 0.635,-15.85 ; 0.635,-14.15 1.25,-14.15 1.25,-13.85 0.635,-13.85 ; 0.635,-12.15 1.25,-12.15 1.25,-11.85 0.635,-11.85 ; 0.635,-10.15 1.25,-10.15 1.25,-9.85 0.635,-9.85 ; 0.635,-8.15 1.25,-8.15 1.25,-7.85 0.635,-7.85 ; 0.635,-6.15 1.25,-6.15 1.25,-5.85 0.635,-5.85 ; 0.635,-4.15 1.25,-4.15 1.25,-3.85 0.635,-3.85 ; 0.635,-2.15 1.25,-2.15 1.25,-1.85 0.635,-1.85 ; 0.635,-0.15 1.25,-0.15 1.25,0.15 0.635,0.15 ; 0.635,1.85 1.25,1.85 1.25,2.15 0.635,2.15 ; 0.635,3.85 1.25,3.85 1.25,4.15 0.635,4.15 ; 0.635,5.85 1.25,5.85 1.25,6.15 0.635,6.15 ; 0.635,7.85 1.25,7.85 1.25,8.15 0.635,8.15 ; 0.635,9.85 1.25,9.85 1.25,10.15 0.635,10.15 ; 0.635,11.85 1.25,11.85 1.25,12.15 0.635,12.15 ; 0.635,13.85 1.25,13.85 1.25,14.15 0.635,14.15 ; 0.635,15.85 1.25,15.85 1.25,16.15 0.635,16.15 ; -0.635,17.15 -0.635,-17.5 0.635,-17.5 0.635,17.5 -0.285,17.5 -0.635,17.15
  text "'.Designator'" at 0.84,-4.047 h1
Top Courtyard:
  lines w0.254: -2.25,-18 2.25,-18 2.25,18 -2.25,18 -2.25,-18
Top Designator:
  text ".Designator" at -7.618,-0.508 h1.52

## PinHeader_1x35_P1.00mm_Vertical_SMD_Pin1Right [mm]
pads (35):
  rect 1.75x0.6 smd: 1(0.875,17) 2(-0.875,16) 3(0.875,15) 4(-0.875,14) 5(0.875,13) 6(-0.875,12) 7(0.875,11) 8(-0.875,10) 9(0.875,9) 10(-0.875,8) 11(0.875,7) 12(-0.875,6) 13(0.875,5) 14(-0.875,4) 15(0.875,3) 16(-0.875,2) 17(0.875,1) 18(-0.875,0) 19(0.875,-1) 20(-0.875,-2) 21(0.875,-3) 22(-0.875,-4) 23(0.875,-5) 24(-0.875,-6) 25(0.875,-7) 26(-0.875,-8) 27(0.875,-9) 28(-0.875,-10) 29(0.875,-11) 30(-0.875,-12) 31(0.875,-13) 32(-0.875,-14) 33(0.875,-15) 34(-0.875,-16) 35(0.875,-17)
F.SilkS:
  lines w0.254: -0.745,-16.61 -0.745,-17.61 0.745,-17.61 ; -0.745,-15.39 -0.745,-14.61 ; -0.745,-13.39 -0.745,-12.61 ; -0.745,-11.39 -0.745,-10.61 ; -0.745,-9.39 -0.745,-8.61 ; -0.745,-7.39 -0.745,-6.61 ; -0.745,-5.39 -0.745,-4.61 ; -0.745,-3.39 -0.745,-2.61 ; -0.745,-1.39 -0.745,-0.61 ; -0.745,0.61 -0.745,1.39 ; -0.745,2.61 -0.745,3.39 ; -0.745,4.61 -0.745,5.39 ; -0.745,6.61 -0.745,7.39 ; -0.745,8.61 -0.745,9.39 ; -0.745,10.61 -0.745,11.39 ; -0.745,12.61 -0.745,13.39 ; -0.745,14.61 -0.745,15.39 ; -0.745,17.39 -0.745,16.61 -0.745,17.61 0.745,17.61 1.69,17.61 ; 0.745,-16.39 0.745,-15.61 ; 0.745,-14.39 0.745,-13.61 ; 0.745,-12.39 0.745,-11.61 ; 0.745,-10.39 0.745,-9.61 ; 0.745,-8.39 0.745,-7.61 ; 0.745,-6.39 0.745,-5.61 ; 0.745,-4.39 0.745,-3.61 ; 0.745,-2.39 0.745,-1.61 ; 0.745,-0.39 0.745,0.39 ; 0.745,1.61 0.745,2.39 ; 0.745,3.61 0.745,4.39 ; 0.745,5.61 0.745,6.39 ; 0.745,7.61 0.745,8.39 ; 0.745,9.61 0.745,10.39 ; 0.745,11.61 0.745,12.39 ; 0.745,13.61 0.745,14.39 ; 0.745,15.61 0.745,16.39
Top Assembly:
  lines w0.254: -0.635,-16.15 -1.25,-16.15 -1.25,-15.85 -0.635,-15.85 ; -0.635,-14.15 -1.25,-14.15 -1.25,-13.85 -0.635,-13.85 ; -0.635,-12.15 -1.25,-12.15 -1.25,-11.85 -0.635,-11.85 ; -0.635,-10.15 -1.25,-10.15 -1.25,-9.85 -0.635,-9.85 ; -0.635,-8.15 -1.25,-8.15 -1.25,-7.85 -0.635,-7.85 ; -0.635,-6.15 -1.25,-6.15 -1.25,-5.85 -0.635,-5.85 ; -0.635,-4.15 -1.25,-4.15 -1.25,-3.85 -0.635,-3.85 ; -0.635,-2.15 -1.25,-2.15 -1.25,-1.85 -0.635,-1.85 ; -0.635,-0.15 -1.25,-0.15 -1.25,0.15 -0.635,0.15 ; -0.635,1.85 -1.25,1.85 -1.25,2.15 -0.635,2.15 ; -0.635,3.85 -1.25,3.85 -1.25,4.15 -0.635,4.15 ; -0.635,5.85 -1.25,5.85 -1.25,6.15 -0.635,6.15 ; -0.635,7.85 -1.25,7.85 -1.25,8.15 -0.635,8.15 ; -0.635,9.85 -1.25,9.85 -1.25,10.15 -0.635,10.15 ; -0.635,11.85 -1.25,11.85 -1.25,12.15 -0.635,12.15 ; -0.635,13.85 -1.25,13.85 -1.25,14.15 -0.635,14.15 ; -0.635,15.85 -1.25,15.85 -1.25,16.15 -0.635,16.15 ; 0.635,-17.15 1.25,-17.15 1.25,-16.85 0.635,-16.85 ; 0.635,-15.15 1.25,-15.15 1.25,-14.85 0.635,-14.85 ; 0.635,-13.15 1.25,-13.15 1.25,-12.85 0.635,-12.85 ; 0.635,-11.15 1.25,-11.15 1.25,-10.85 0.635,-10.85 ; 0.635,-9.15 1.25,-9.15 1.25,-8.85 0.635,-8.85 ; 0.635,-7.15 1.25,-7.15 1.25,-6.85 0.635,-6.85 ; 0.635,-5.15 1.25,-5.15 1.25,-4.85 0.635,-4.85 ; 0.635,-3.15 1.25,-3.15 1.25,-2.85 0.635,-2.85 ; 0.635,-1.15 1.25,-1.15 1.25,-0.85 0.635,-0.85 ; 0.635,0.85 1.25,0.85 1.25,1.15 0.635,1.15 ; 0.635,2.85 1.25,2.85 1.25,3.15 0.635,3.15 ; 0.635,4.85 1.25,4.85 1.25,5.15 0.635,5.15 ; 0.635,6.85 1.25,6.85 1.25,7.15 0.635,7.15 ; 0.635,8.85 1.25,8.85 1.25,9.15 0.635,9.15 ; 0.635,10.85 1.25,10.85 1.25,11.15 0.635,11.15 ; 0.635,12.85 1.25,12.85 1.25,13.15 0.635,13.15 ; 0.635,14.85 1.25,14.85 1.25,15.15 0.635,15.15 ; 0.635,16.85 1.25,16.85 1.25,17.15 0.635,17.15 ; 0.635,17.15 0.635,-17.5 -0.635,-17.5 -0.635,17.5 0.285,17.5 0.635,17.15
  text "'.Designator'" at 0.84,-4.047 h1
Top Courtyard:
  lines w0.254: -2.25,-18 2.25,-18 2.25,18 -2.25,18 -2.25,-18
Top Designator:
  text ".Designator" at -7.618,-0.508 h1.52

## PinHeader_1x36_P1.00mm_Horizontal [mm]
pads (36):
  rect 0.85x0.85 hole 0.5: 1(0,0)
  round 0.85 hole 0.5: 2(0,-1) 3(0,-2) 4(0,-3) 5(0,-4) 6(0,-5) 7(0,-6) 8(0,-7) 9(0,-8) 10(0,-9) 11(0,-10) 12(0,-11) 13(0,-12) 14(0,-13) 15(0,-14) 16(0,-15) 17(0,-16) 18(0,-17) 19(0,-18) 20(0,-19) 21(0,-20) 22(0,-21) 23(0,-22) 24(0,-23) 25(0,-24) 26(0,-25) 27(0,-26) 28(0,-27) 29(0,-28) 30(0,-29) 31(0,-30) 32(0,-31) 33(0,-32) 34(0,-33) 35(0,-34) 36(0,-35)
F.SilkS:
  lines w0.254: -0.735,0 -0.735,0.735 0,0.735 ; 0.41,-35.61 1.36,-35.61 1.36,0.61 0.735,0.61 ; 0.539,-34.5 1.36,-34.5 ; 0.539,-33.5 1.36,-33.5 ; 0.539,-32.5 1.36,-32.5 ; 0.539,-31.5 1.36,-31.5 ; 0.539,-30.5 1.36,-30.5 ; 0.539,-29.5 1.36,-29.5 ; 0.539,-28.5 1.36,-28.5 ; 0.539,-27.5 1.36,-27.5 ; 0.539,-26.5 1.36,-26.5 ; 0.539,-25.5 1.36,-25.5 ; 0.539,-24.5 1.36,-24.5 ; 0.539,-23.5 1.36,-23.5 ; 0.539,-22.5 1.36,-22.5 ; 0.539,-21.5 1.36,-21.5 ; 0.539,-20.5 1.36,-20.5 ; 0.539,-19.5 1.36,-19.5 ; 0.539,-18.5 1.36,-18.5 ; 0.539,-17.5 1.36,-17.5 ; 0.539,-16.5 1.36,-16.5 ; 0.539,-15.5 1.36,-15.5 ; 0.539,-14.5 1.36,-14.5 ; 0.539,-13.5 1.36,-13.5 ; 0.539,-12.5 1.36,-12.5 ; 0.539,-11.5 1.36,-11.5 ; 0.539,-10.5 1.36,-10.5 ; 0.539,-9.5 1.36,-9.5 ; 0.539,-8.5 1.36,-8.5 ; 0.539,-7.5 1.36,-7.5 ; 0.539,-6.5 1.36,-6.5 ; 0.539,-5.5 1.36,-5.5 ; 0.539,-4.5 1.36,-4.5 ; 0.539,-3.5 1.36,-3.5 ; 0.539,-2.5 1.36,-2.5 ; 0.539,-1.5 1.36,-1.5 ; 0.735,-0.5 1.36,-0.5 ; 1.36,-35.26 3.36,-35.26 3.36,-34.74 1.36,-34.74 ; 1.36,-34.26 3.36,-34.26 3.36,-33.74 1.36,-33.74 ; 1.36,-33.26 3.36,-33.26 3.36,-32.74 1.36,-32.74 ; 1.36,-32.26 3.36,-32.26 3.36,-31.74 1.36,-31.74 ; 1.36,-31.26 3.36,-31.26 3.36,-30.74 1.36,-30.74 ; 1.36,-30.26 3.36,-30.26 3.36,-29.74 1.36,-29.74 ; 1.36,-29.26 3.36,-29.26 3.36,-28.74 1.36,-28.74 ; 1.36,-28.26 3.36,-28.26 3.36,-27.74 1.36,-27.74 ; 1.36,-27.26 3.36,-27.26 3.36,-26.74 1.36,-26.74 ; 1.36,-26.26 3.36,-26.26 3.36,-25.74 1.36,-25.74 ; 1.36,-25.26 3.36,-25.26 3.36,-24.74 1.36,-24.74 ; 1.36,-24.26 3.36,-24.26 3.36,-23.74 1.36,-23.74 ; 1.36,-23.26 3.36,-23.26 3.36,-22.74 1.36,-22.74 ; 1.36,-22.26 3.36,-22.26 3.36,-21.74 1.36,-21.74 ; 1.36,-21.26 3.36,-21.26 3.36,-20.74 1.36,-20.74 ; 1.36,-20.26 3.36,-20.26 3.36,-19.74 1.36,-19.74 ; 1.36,-19.26 3.36,-19.26 3.36,-18.74 1.36,-18.74 ; 1.36,-18.26 3.36,-18.26 3.36,-17.74 1.36,-17.74 ; 1.36,-17.26 3.36,-17.26 3.36,-16.74 1.36,-16.74 ; 1.36,-16.26 3.36,-16.26 3.36,-15.74 1.36,-15.74 ; 1.36,-15.26 3.36,-15.26 3.36,-14.74 1.36,-14.74 ; 1.36,-14.26 3.36,-14.26 3.36,-13.74 1.36,-13.74 ; 1.36,-13.26 3.36,-13.26 3.36,-12.74 1.36,-12.74 ; 1.36,-12.26 3.36,-12.26 3.36,-11.74 1.36,-11.74 ; 1.36,-11.26 3.36,-11.26 3.36,-10.74 1.36,-10.74 ; 1.36,-10.26 3.36,-10.26 3.36,-9.74 1.36,-9.74 ; 1.36,-9.26 3.36,-9.26 3.36,-8.74 1.36,-8.74 ; 1.36,-8.26 3.36,-8.26 3.36,-7.74 1.36,-7.74 ; 1.36,-7.26 3.36,-7.26 3.36,-6.74 1.36,-6.74 ; 1.36,-6.26 3.36,-6.26 3.36,-5.74 1.36,-5.74 ; 1.36,-5.26 3.36,-5.26 3.36,-4.74 1.36,-4.74 ; 1.36,-4.26 3.36,-4.26 3.36,-3.74 1.36,-3.74 ; 1.36,-3.26 3.36,-3.26 3.36,-2.74 1.36,-2.74 ; 1.36,-2.26 3.36,-2.26 3.36,-1.74 1.36,-1.74 ; 1.36,-1.26 3.36,-1.26 3.36,-0.74 1.36,-0.74 ; 1.36,-0.26 3.36,-0.26 3.36,0.26 1.36,0.26 1.36,-0.26
Top Assembly:
  drawing of 221 lines, arcs and shapes, not listed
  text "'.Designator'" at 1.254,-19.928 h0.6
Top Courtyard:
  lines w0.254: -1,-36 3.75,-36 3.75,1 -1,1 -1,-36
Top Designator:
  text ".Designator" at -6.243,-18.008 h1.52

## PinHeader_1x36_P1.00mm_Vertical [mm]
pads (36):
  rect 0.85x0.85 hole 0.5: 1(0,0)
  round 0.85 hole 0.5: 2(0,-1) 3(0,-2) 4(0,-3) 5(0,-4) 6(0,-5) 7(0,-6) 8(0,-7) 9(0,-8) 10(0,-9) 11(0,-10) 12(0,-11) 13(0,-12) 14(0,-13) 15(0,-14) 16(0,-15) 17(0,-16) 18(0,-17) 19(0,-18) 20(0,-19) 21(0,-20) 22(0,-21) 23(0,-22) 24(0,-23) 25(0,-24) 26(0,-25) 27(0,-26) 28(0,-27) 29(0,-28) 30(0,-29) 31(0,-30) 32(0,-31) 33(0,-32) 34(0,-33) 35(0,-34) 36(0,-35)
F.SilkS:
  lines w0.254: -0.745,0 -0.745,0.735 0,0.735 ; -0.686,-0.735 -0.745,-0.735 -0.745,-35.61 -0.41,-35.61 ; 0.41,-35.61 0.745,-35.61 0.745,-0.735 0.686,-0.735
Top Assembly:
  lines w0.254: -0.635,-35.5 0.635,-35.5 0.635,0.5 -0.318,0.5 -0.635,0.182 -0.635,-35.5
  text "'.Designator'" at 0.639,-20.576 h0.76
Top Courtyard:
  lines w0.254: -1.14,-36 1.14,-36 1.14,1 -1.14,1 -1.14,-36
Top Designator:
  text ".Designator" at -7.618,-18.008 h1.52

## PinHeader_1x36_P1.00mm_Vertical_SMD_Pin1Left [mm]
pads (36):
  rect 1.75x0.6 smd: 1(-0.875,17.5) 2(0.875,16.5) 3(-0.875,15.5) 4(0.875,14.5) 5(-0.875,13.5) 6(0.875,12.5) 7(-0.875,11.5) 8(0.875,10.5) 9(-0.875,9.5) 10(0.875,8.5) 11(-0.875,7.5) 12(0.875,6.5) 13(-0.875,5.5) 14(0.875,4.5) 15(-0.875,3.5) 16(0.875,2.5) 17(-0.875,1.5) 18(0.875,0.5) 19(-0.875,-0.5) 20(0.875,-1.5) 21(-0.875,-2.5) 22(0.875,-3.5) 23(-0.875,-4.5) 24(0.875,-5.5) 25(-0.875,-6.5) 26(0.875,-7.5) 27(-0.875,-8.5) 28(0.875,-9.5) 29(-0.875,-10.5) 30(0.875,-11.5) 31(-0.875,-12.5) 32(0.875,-13.5) 33(-0.875,-14.5) 34(0.875,-15.5) 35(-0.875,-16.5) 36(0.875,-17.5)
F.SilkS:
  lines w0.254: -1.69,18.11 -0.745,18.11 0.745,18.11 0.745,17.11 ; -0.745,-17.11 -0.745,-18.11 0.745,-18.11 ; -0.745,-15.89 -0.745,-15.11 ; -0.745,-13.89 -0.745,-13.11 ; -0.745,-11.89 -0.745,-11.11 ; -0.745,-9.89 -0.745,-9.11 ; -0.745,-7.89 -0.745,-7.11 ; -0.745,-5.89 -0.745,-5.11 ; -0.745,-3.89 -0.745,-3.11 ; -0.745,-1.89 -0.745,-1.11 ; -0.745,0.11 -0.745,0.89 ; -0.745,2.11 -0.745,2.89 ; -0.745,4.11 -0.745,4.89 ; -0.745,6.11 -0.745,6.89 ; -0.745,8.11 -0.745,8.89 ; -0.745,10.11 -0.745,10.89 ; -0.745,12.11 -0.745,12.89 ; -0.745,14.11 -0.745,14.89 ; -0.745,16.11 -0.745,16.89 ; 0.745,-16.89 0.745,-16.11 ; 0.745,-14.89 0.745,-14.11 ; 0.745,-12.89 0.745,-12.11 ; 0.745,-10.89 0.745,-10.11 ; 0.745,-8.89 0.745,-8.11 ; 0.745,-6.89 0.745,-6.11 ; 0.745,-4.89 0.745,-4.11 ; 0.745,-2.89 0.745,-2.11 ; 0.745,-0.89 0.745,-0.11 ; 0.745,1.11 0.745,1.89 ; 0.745,3.11 0.745,3.89 ; 0.745,5.11 0.745,5.89 ; 0.745,7.11 0.745,7.89 ; 0.745,9.11 0.745,9.89 ; 0.745,11.11 0.745,11.89 ; 0.745,13.11 0.745,13.89 ; 0.745,15.11 0.745,15.89
Top Assembly:
  lines w0.254: -0.635,-16.65 -1.25,-16.65 -1.25,-16.35 -0.635,-16.35 ; -0.635,-14.65 -1.25,-14.65 -1.25,-14.35 -0.635,-14.35 ; -0.635,-12.65 -1.25,-12.65 -1.25,-12.35 -0.635,-12.35 ; -0.635,-10.65 -1.25,-10.65 -1.25,-10.35 -0.635,-10.35 ; -0.635,-8.65 -1.25,-8.65 -1.25,-8.35 -0.635,-8.35 ; -0.635,-6.65 -1.25,-6.65 -1.25,-6.35 -0.635,-6.35 ; -0.635,-4.65 -1.25,-4.65 -1.25,-4.35 -0.635,-4.35 ; -0.635,-2.65 -1.25,-2.65 -1.25,-2.35 -0.635,-2.35 ; -0.635,-0.65 -1.25,-0.65 -1.25,-0.35 -0.635,-0.35 ; -0.635,1.35 -1.25,1.35 -1.25,1.65 -0.635,1.65 ; -0.635,3.35 -1.25,3.35 -1.25,3.65 -0.635,3.65 ; -0.635,5.35 -1.25,5.35 -1.25,5.65 -0.635,5.65 ; -0.635,7.35 -1.25,7.35 -1.25,7.65 -0.635,7.65 ; -0.635,9.35 -1.25,9.35 -1.25,9.65 -0.635,9.65 ; -0.635,11.35 -1.25,11.35 -1.25,11.65 -0.635,11.65 ; -0.635,13.35 -1.25,13.35 -1.25,13.65 -0.635,13.65 ; -0.635,15.35 -1.25,15.35 -1.25,15.65 -0.635,15.65 ; -0.635,17.35 -1.25,17.35 -1.25,17.65 -0.635,17.65 ; 0.635,-17.65 1.25,-17.65 1.25,-17.35 0.635,-17.35 ; 0.635,-15.65 1.25,-15.65 1.25,-15.35 0.635,-15.35 ; 0.635,-13.65 1.25,-13.65 1.25,-13.35 0.635,-13.35 ; 0.635,-11.65 1.25,-11.65 1.25,-11.35 0.635,-11.35 ; 0.635,-9.65 1.25,-9.65 1.25,-9.35 0.635,-9.35 ; 0.635,-7.65 1.25,-7.65 1.25,-7.35 0.635,-7.35 ; 0.635,-5.65 1.25,-5.65 1.25,-5.35 0.635,-5.35 ; 0.635,-3.65 1.25,-3.65 1.25,-3.35 0.635,-3.35 ; 0.635,-1.65 1.25,-1.65 1.25,-1.35 0.635,-1.35 ; 0.635,0.35 1.25,0.35 1.25,0.65 0.635,0.65 ; 0.635,2.35 1.25,2.35 1.25,2.65 0.635,2.65 ; 0.635,4.35 1.25,4.35 1.25,4.65 0.635,4.65 ; 0.635,6.35 1.25,6.35 1.25,6.65 0.635,6.65 ; 0.635,8.35 1.25,8.35 1.25,8.65 0.635,8.65 ; 0.635,10.35 1.25,10.35 1.25,10.65 0.635,10.65 ; 0.635,12.35 1.25,12.35 1.25,12.65 0.635,12.65 ; 0.635,14.35 1.25,14.35 1.25,14.65 0.635,14.65 ; 0.635,16.35 1.25,16.35 1.25,16.65 0.635,16.65 ; -0.635,17.65 -0.635,-18 0.635,-18 0.635,18 -0.285,18 -0.635,17.65
  text "'.Designator'" at 0.84,-4.047 h1
Top Courtyard:
  lines w0.254: -2.25,-18.5 2.25,-18.5 2.25,18.5 -2.25,18.5 -2.25,-18.5
Top Designator:
  text ".Designator" at -7.618,-0.508 h1.52

## PinHeader_1x36_P1.00mm_Vertical_SMD_Pin1Right [mm]
pads (36):
  rect 1.75x0.6 smd: 1(0.875,17.5) 2(-0.875,16.5) 3(0.875,15.5) 4(-0.875,14.5) 5(0.875,13.5) 6(-0.875,12.5) 7(0.875,11.5) 8(-0.875,10.5) 9(0.875,9.5) 10(-0.875,8.5) 11(0.875,7.5) 12(-0.875,6.5) 13(0.875,5.5) 14(-0.875,4.5) 15(0.875,3.5) 16(-0.875,2.5) 17(0.875,1.5) 18(-0.875,0.5) 19(0.875,-0.5) 20(-0.875,-1.5) 21(0.875,-2.5) 22(-0.875,-3.5) 23(0.875,-4.5) 24(-0.875,-5.5) 25(0.875,-6.5) 26(-0.875,-7.5) 27(0.875,-8.5) 28(-0.875,-9.5) 29(0.875,-10.5) 30(-0.875,-11.5) 31(0.875,-12.5) 32(-0.875,-13.5) 33(0.875,-14.5) 34(-0.875,-15.5) 35(0.875,-16.5) 36(-0.875,-17.5)
F.SilkS:
  lines w0.254: -0.745,-18.11 0.745,-18.11 0.745,-17.11 ; -0.745,-16.89 -0.745,-16.11 ; -0.745,-14.89 -0.745,-14.11 ; -0.745,-12.89 -0.745,-12.11 ; -0.745,-10.89 -0.745,-10.11 ; -0.745,-8.89 -0.745,-8.11 ; -0.745,-6.89 -0.745,-6.11 ; -0.745,-4.89 -0.745,-4.11 ; -0.745,-2.89 -0.745,-2.11 ; -0.745,-0.89 -0.745,-0.11 ; -0.745,1.11 -0.745,1.89 ; -0.745,3.11 -0.745,3.89 ; -0.745,5.11 -0.745,5.89 ; -0.745,7.11 -0.745,7.89 ; -0.745,9.11 -0.745,9.89 ; -0.745,11.11 -0.745,11.89 ; -0.745,13.11 -0.745,13.89 ; -0.745,15.11 -0.745,15.89 ; -0.745,17.89 -0.745,17.11 -0.745,18.11 0.745,18.11 1.69,18.11 ; 0.745,-15.89 0.745,-15.11 ; 0.745,-13.89 0.745,-13.11 ; 0.745,-11.89 0.745,-11.11 ; 0.745,-9.89 0.745,-9.11 ; 0.745,-7.89 0.745,-7.11 ; 0.745,-5.89 0.745,-5.11 ; 0.745,-3.89 0.745,-3.11 ; 0.745,-1.89 0.745,-1.11 ; 0.745,0.11 0.745,0.89 ; 0.745,2.11 0.745,2.89 ; 0.745,4.11 0.745,4.89 ; 0.745,6.11 0.745,6.89 ; 0.745,8.11 0.745,8.89 ; 0.745,10.11 0.745,10.89 ; 0.745,12.11 0.745,12.89 ; 0.745,14.11 0.745,14.89 ; 0.745,16.11 0.745,16.89
Top Assembly:
  lines w0.254: -0.635,-17.65 -1.25,-17.65 -1.25,-17.35 -0.635,-17.35 ; -0.635,-15.65 -1.25,-15.65 -1.25,-15.35 -0.635,-15.35 ; -0.635,-13.65 -1.25,-13.65 -1.25,-13.35 -0.635,-13.35 ; -0.635,-11.65 -1.25,-11.65 -1.25,-11.35 -0.635,-11.35 ; -0.635,-9.65 -1.25,-9.65 -1.25,-9.35 -0.635,-9.35 ; -0.635,-7.65 -1.25,-7.65 -1.25,-7.35 -0.635,-7.35 ; -0.635,-5.65 -1.25,-5.65 -1.25,-5.35 -0.635,-5.35 ; -0.635,-3.65 -1.25,-3.65 -1.25,-3.35 -0.635,-3.35 ; -0.635,-1.65 -1.25,-1.65 -1.25,-1.35 -0.635,-1.35 ; -0.635,0.35 -1.25,0.35 -1.25,0.65 -0.635,0.65 ; -0.635,2.35 -1.25,2.35 -1.25,2.65 -0.635,2.65 ; -0.635,4.35 -1.25,4.35 -1.25,4.65 -0.635,4.65 ; -0.635,6.35 -1.25,6.35 -1.25,6.65 -0.635,6.65 ; -0.635,8.35 -1.25,8.35 -1.25,8.65 -0.635,8.65 ; -0.635,10.35 -1.25,10.35 -1.25,10.65 -0.635,10.65 ; -0.635,12.35 -1.25,12.35 -1.25,12.65 -0.635,12.65 ; -0.635,14.35 -1.25,14.35 -1.25,14.65 -0.635,14.65 ; -0.635,16.35 -1.25,16.35 -1.25,16.65 -0.635,16.65 ; 0.635,-16.65 1.25,-16.65 1.25,-16.35 0.635,-16.35 ; 0.635,-14.65 1.25,-14.65 1.25,-14.35 0.635,-14.35 ; 0.635,-12.65 1.25,-12.65 1.25,-12.35 0.635,-12.35 ; 0.635,-10.65 1.25,-10.65 1.25,-10.35 0.635,-10.35 ; 0.635,-8.65 1.25,-8.65 1.25,-8.35 0.635,-8.35 ; 0.635,-6.65 1.25,-6.65 1.25,-6.35 0.635,-6.35 ; 0.635,-4.65 1.25,-4.65 1.25,-4.35 0.635,-4.35 ; 0.635,-2.65 1.25,-2.65 1.25,-2.35 0.635,-2.35 ; 0.635,-0.65 1.25,-0.65 1.25,-0.35 0.635,-0.35 ; 0.635,1.35 1.25,1.35 1.25,1.65 0.635,1.65 ; 0.635,3.35 1.25,3.35 1.25,3.65 0.635,3.65 ; 0.635,5.35 1.25,5.35 1.25,5.65 0.635,5.65 ; 0.635,7.35 1.25,7.35 1.25,7.65 0.635,7.65 ; 0.635,9.35 1.25,9.35 1.25,9.65 0.635,9.65 ; 0.635,11.35 1.25,11.35 1.25,11.65 0.635,11.65 ; 0.635,13.35 1.25,13.35 1.25,13.65 0.635,13.65 ; 0.635,15.35 1.25,15.35 1.25,15.65 0.635,15.65 ; 0.635,17.35 1.25,17.35 1.25,17.65 0.635,17.65 ; 0.635,17.65 0.635,-18 -0.635,-18 -0.635,18 0.285,18 0.635,17.65
  text "'.Designator'" at 0.84,-4.047 h1
Top Courtyard:
  lines w0.254: -2.25,-18.5 2.25,-18.5 2.25,18.5 -2.25,18.5 -2.25,-18.5
Top Designator:
  text ".Designator" at -7.618,-0.508 h1.52

## PinHeader_1x37_P1.00mm_Horizontal [mm]
pads (37):
  rect 0.85x0.85 hole 0.5: 1(0,0)
  round 0.85 hole 0.5: 2(0,-1) 3(0,-2) 4(0,-3) 5(0,-4) 6(0,-5) 7(0,-6) 8(0,-7) 9(0,-8) 10(0,-9) 11(0,-10) 12(0,-11) 13(0,-12) 14(0,-13) 15(0,-14) 16(0,-15) 17(0,-16) 18(0,-17) 19(0,-18) 20(0,-19) 21(0,-20) 22(0,-21) 23(0,-22) 24(0,-23) 25(0,-24) 26(0,-25) 27(0,-26) 28(0,-27) 29(0,-28) 30(0,-29) 31(0,-30) 32(0,-31) 33(0,-32) 34(0,-33) 35(0,-34) 36(0,-35) 37(0,-36)
F.SilkS:
  drawing of 153 lines, arcs and shapes, not listed
Top Assembly:
  drawing of 227 lines, arcs and shapes, not listed
  text "'.Designator'" at 1.254,-20.428 h0.6
Top Courtyard:
  lines w0.254: -1,-37 3.75,-37 3.75,1 -1,1 -1,-37
Top Designator:
  text ".Designator" at -6.243,-18.508 h1.52

## PinHeader_1x37_P1.00mm_Vertical [mm]
pads (37):
  rect 0.85x0.85 hole 0.5: 1(0,0)
  round 0.85 hole 0.5: 2(0,-1) 3(0,-2) 4(0,-3) 5(0,-4) 6(0,-5) 7(0,-6) 8(0,-7) 9(0,-8) 10(0,-9) 11(0,-10) 12(0,-11) 13(0,-12) 14(0,-13) 15(0,-14) 16(0,-15) 17(0,-16) 18(0,-17) 19(0,-18) 20(0,-19) 21(0,-20) 22(0,-21) 23(0,-22) 24(0,-23) 25(0,-24) 26(0,-25) 27(0,-26) 28(0,-27) 29(0,-28) 30(0,-29) 31(0,-30) 32(0,-31) 33(0,-32) 34(0,-33) 35(0,-34) 36(0,-35) 37(0,-36)
F.SilkS:
  lines w0.254: -0.745,0 -0.745,0.735 0,0.735 ; -0.686,-0.735 -0.745,-0.735 -0.745,-36.61 -0.41,-36.61 ; 0.41,-36.61 0.745,-36.61 0.745,-0.735 0.686,-0.735
Top Assembly:
  lines w0.254: -0.635,-36.5 0.635,-36.5 0.635,0.5 -0.318,0.5 -0.635,0.182 -0.635,-36.5
  text "'.Designator'" at 0.639,-21.076 h0.76
Top Courtyard:
  lines w0.254: -1.14,-37 1.14,-37 1.14,1 -1.14,1 -1.14,-37
Top Designator:
  text ".Designator" at -7.618,-18.508 h1.52